# Altium footprint library XCVR_ESP32-S3-WROOM-1-N8R2.PcbLib: 2 footprints
Each footprint in its own frame and in the unit in brackets; x right, y up, seen from the top. Pads: shape width x height; smd on the part's side, far side on the other; paste and mask are expansions set on the pad; w line width, h text height; cw(c..) or ccw(c..) is an arc to the next point about the centre after c.
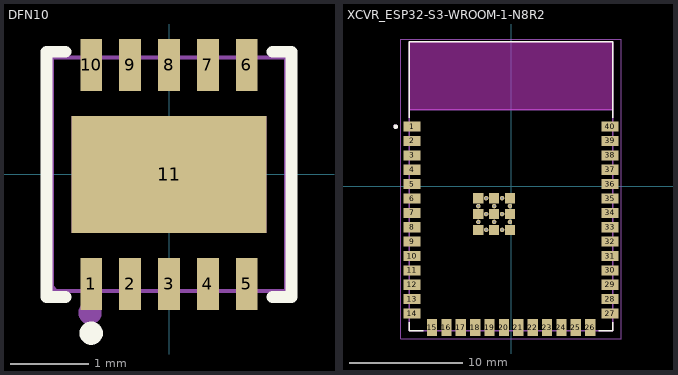
[diagram p0: the footprints below, top view; thin cyan lines are the x and y axes]

## DFN10 [mm]
pads (11):
  rect 0.28x0.665 smd paste+0 mask+0.05: 1(-1,-1.407) 2(-0.5,-1.407) 3(0,-1.407) 4(0.5,-1.407) 5(1,-1.407) 6(1,1.407) 7(0.5,1.407) 8(0,1.407) 9(-0.5,1.407) 10(-1,1.407)
  rect 2.5x1.5 smd paste+0 mask+0.05: 11(0,0)
Top Overlay:
  circle w0.15: c-1,-2.04 r0.075
  lines w0.152: -1.331,-1.576 -1.576,-1.576 -1.576,1.576 -1.331,1.576 ; 1.331,-1.576 1.576,-1.576 1.576,1.576 1.331,1.576
Mechanical 6:
  circle w0.15: c-1.016,-1.778 r0.075
Mechanical 15:
  region: -1.25,0.75 1.25,0.75 1.25,-0.75 -1.25,-0.75
  region: -1.12,-1.5 -1.12,-1.1 -0.88,-1.1 -0.88,-1.5
  region: -0.62,-1.5 -0.62,-1.1 -0.38,-1.1 -0.38,-1.5
  region: -0.12,-1.5 -0.12,-1.1 0.12,-1.1 0.12,-1.5
  region: 0.38,-1.5 0.38,-1.1 0.62,-1.1 0.62,-1.5
  region: 0.88,-1.5 0.88,-1.1 1.12,-1.1 1.12,-1.5
  region: 0.88,1.5 0.88,1.1 1.12,1.1 1.12,1.5
  region: 0.38,1.5 0.38,1.1 0.62,1.1 0.62,1.5
  region: -0.12,1.5 -0.12,1.1 0.12,1.1 0.12,1.5
  region: -0.62,1.5 -0.62,1.1 -0.38,1.1 -0.38,1.5
  region: -1.12,1.5 -1.12,1.1 -0.88,1.1 -0.88,1.5
  region: -1.44,-1.5 -1.44,-1.525 -1.475,-1.56 -1.525,-1.56 -1.56,-1.525 -1.56,-1.5 -1.56,-1.475 -1.525,-1.44 -1.475,-1.44 -1.44,-1.475
  lines w0.051: -1.5,-1.5 1.5,-1.5 1.5,1.5 -1.5,1.5 -1.5,-1.5
3D body "DFN-10-3x3-0_5.STEP": height 0.8, standoff 0, extent -1.55,-1.572 1.55,1.548

## XCVR_ESP32-S3-WROOM-1-N8R2 [mm]
height 3.25
pads (61):
  rect 1.5x0.9 smd: 1(-8.75,5.26) 2(-8.75,3.99) 3(-8.75,2.72) 4(-8.75,1.45) 5(-8.75,0.18) 6(-8.75,-1.09) 7(-8.75,-2.36) 8(-8.75,-3.63) 9(-8.75,-4.9) 10(-8.75,-6.17) 11(-8.75,-7.44) 12(-8.75,-8.71) 13(-8.75,-9.98) 14(-8.75,-11.25) 27(8.75,-11.25) 28(8.75,-9.98) 29(8.75,-8.71) 30(8.75,-7.44) 31(8.75,-6.17) 32(8.75,-4.9) 33(8.75,-3.63) 34(8.75,-2.36) 35(8.75,-1.09) 36(8.75,0.18) 37(8.75,1.45) 38(8.75,2.72) 39(8.75,3.99) 40(8.75,5.26)
  rect 0.9x1.5 smd: 15(-6.985,-12.5) 16(-5.715,-12.5) 17(-4.445,-12.5) 18(-3.175,-12.5) 19(-1.905,-12.5) 20(-0.635,-12.5) 21(0.635,-12.5) 22(1.905,-12.5) 23(3.175,-12.5) 24(4.445,-12.5) 25(5.715,-12.5) 26(6.985,-12.5)
  rect 0.9x0.9 smd: 41_1(-1.5,-2.46) 41_2(-2.9,-2.46) 41_3(-0.1,-2.46) 41_4(-2.9,-3.86) 41_5(-1.5,-3.86) 41_6(-0.1,-3.86) 41_7(-2.9,-1.06) 41_8(-1.5,-1.06) 41_9(-0.1,-1.06)
  round 0.4 hole 0.2 mask+0: 41_10(-1.5,-1.76) 41_11(-2.9,-1.76) 41_12(-0.1,-1.76) 41_13(-2.9,-3.16) 41_14(-1.5,-3.16) 41_15(-0.1,-3.16) 41_16(-2.2,-1.06) 41_17(-0.8,-1.06) 41_18(-2.2,-2.46) 41_19(-0.8,-2.46) 41_20(-2.2,-3.86) 41_21(-0.8,-3.86)
Top Overlay:
  circle w0.2: c-10.2,5.26 r0.1
  lines w0.127: -9,-12.02 -9,-12.75 -7.755,-12.75 ; -9,6.03 -9,12.75 9,12.75 9,6.03 ; 7.755,-12.75 9,-12.75 9,-12.02
Keep-Out Layer:
  region: 9,6.75 -9,6.75 -9,12.75 9,12.75
  region: 9,6.75 -9,6.75 -9,12.75 9,12.75
Mechanical 13:
  circle w0.2: c-10.2,5.26 r0.1
  lines w0.127: -9,6.75 9,6.75 ; -9,6.75 -9,12.75 9,12.75 9,6.75 ; -9,6.75 -9,-12.75 9,-12.75 9,6.75
  text "ANTENNA" at -4.5,9.5 h1.27
Mechanical 15:
  lines w0.05: -9.75,-13.5 9.75,-13.5 9.75,13 -9.75,13 -9.75,-13.5
3D body "step_temp.STEP": height 3.25, standoff 0, extent -9,-12.75 9,12.75